# EAGLE library part 4050435-4020270 (library ampex)
Repro/EQ Combo Cards
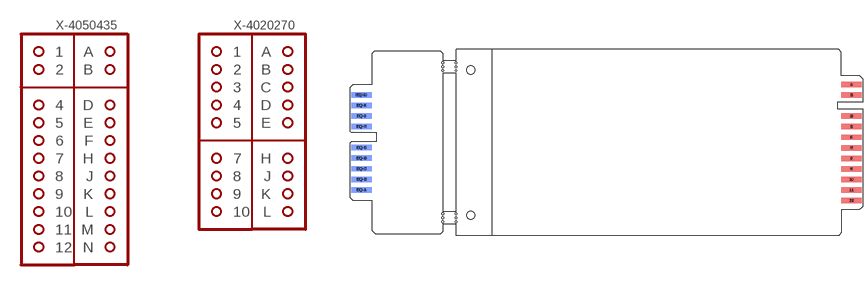
[diagram p10: symbol with the pads of 4050435-4020270; footprint 4050435-4020270]

Designator prefix X; gates -4050435=4050435 -4020270=4020270

## 4050435-4020270  [4050435-4020270]
1  -4050435:1  pas
2  -4050435:2  pas
4  -4050435:4  pas
5  -4050435:5  pas
6  -4050435:6  pas
7  -4050435:7  pas
8  -4050435:8  pas
9  -4050435:9  pas
10  -4050435:10  pas
11  -4050435:11  pas
12  -4050435:12  pas
A  -4050435:A  pas
B  -4050435:B  pas
D  -4050435:D  pas
E  -4050435:E  pas
EQ-1  -4020270:1  pas
EQ-2  -4020270:2  pas
EQ-3  -4020270:3  pas
EQ-4  -4020270:4  pas
EQ-5  -4020270:5  pas
EQ-7  -4020270:7  pas
EQ-8  -4020270:8  pas
EQ-9  -4020270:9  pas
EQ-10  -4020270:10  pas
EQ-A  -4020270:A  pas
EQ-B  -4020270:B  pas
EQ-C  -4020270:C  pas
EQ-D  -4020270:D  pas
EQ-E  -4020270:E  pas
EQ-H  -4020270:H  pas
EQ-J  -4020270:J  pas
EQ-K  -4020270:K  pas
EQ-L  -4020270:L  pas
F  -4050435:F  pas
H  -4050435:H  pas
J  -4050435:J  pas
K  -4050435:K  pas
L  -4050435:L  pas
M  -4050435:M  pas
N  -4050435:N  pas

## Footprint 4050435-4020270 (pad centres in mm)
REPRO/EQ COMBO Grid 0.00975"
smd 7.62 x 2.032 bottom: 1 75.127,21.793; 2 75.127,17.831; 4 75.127,9.906; 5 75.127,5.944; 6 75.127,1.981; 7 75.127,-1.981; 8 75.127,-5.944; 9 75.127,-9.906; 10 75.127,-13.868; 11 75.127,-17.831; 12 75.127,-21.793; EQ-1 -108.826,-17.767; EQ-2 -108.826,-13.805; EQ-3 -108.826,-9.842; EQ-4 -108.826,-5.88; EQ-5 -108.826,-1.918; EQ-7 -108.826,6.007; EQ-8 -108.826,9.97; EQ-9 -108.826,13.932; EQ-10 -108.826,17.894
smd 7.62 x 2.032: A 75.127,21.793; B 75.127,17.831; D 75.127,9.906; E 75.127,5.944; EQ-A -108.826,-17.767; EQ-B -108.826,-13.805; EQ-C -108.826,-9.842; EQ-D -108.826,-5.88; EQ-E -108.826,-1.918; EQ-H -108.826,6.007; EQ-J -108.826,9.97; EQ-K -108.826,13.932; EQ-L -108.826,17.894; F 75.127,1.981; H 75.127,-1.981; J 75.127,-5.944; K 75.127,-9.906; L 75.127,-13.868; M 75.127,-17.831; N 75.127,-21.793
hole 3.048 at -67.856,27.241
hole 3.048 at -67.856,-27.241
hole 0.66 at -78.257,29.966
hole 0.66 at -73.304,29.966
hole 0.66 at -78.257,-29.718
hole 0.66 at -73.304,-29.718
hole 0.66 at -78.257,28.48
hole 0.66 at -73.304,28.48
hole 0.66 at -78.257,-28.232
hole 0.66 at -73.304,-28.232
hole 0.66 at -78.257,26.994
hole 0.66 at -73.304,26.994
hole 0.66 at -78.257,-26.746
hole 0.66 at -73.304,-26.746